# EAGLE library part OLED_DISPLAY (library Mebius)
Ecran monochrome 128X64 ADA326
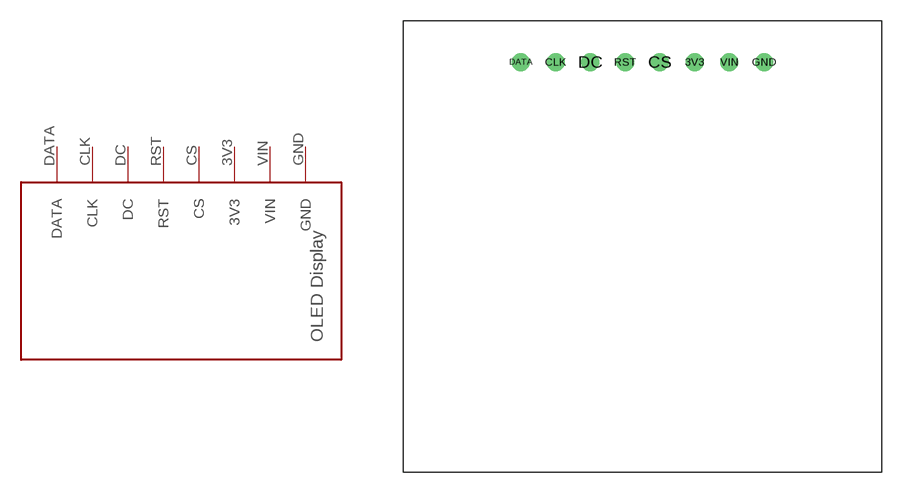
[diagram p1: symbol with the pads of OLED_DISPLAY; footprint OLED_DISPLAY]

Designator prefix -

## OLED_DISPLAY  [OLED_DISPLAY]
3V3  3V3
CLK  CLK
CS  CS
DATA  DATA
DC  DC
GND  GND
RST  RST
VIN  VIN

## Footprint OLED_DISPLAY (pad centres in mm)
drill 0.8: 3V3 3.81,13.462; CLK -6.35,13.462; CS 1.27,13.462; DATA -8.89,13.462; DC -3.81,13.462; GND 8.89,13.462; RST -1.27,13.462; VIN 6.35,13.462